# EAGLE library part PINHEADER_7PIN (library cTechnologies_connectors)
PIN HEADER
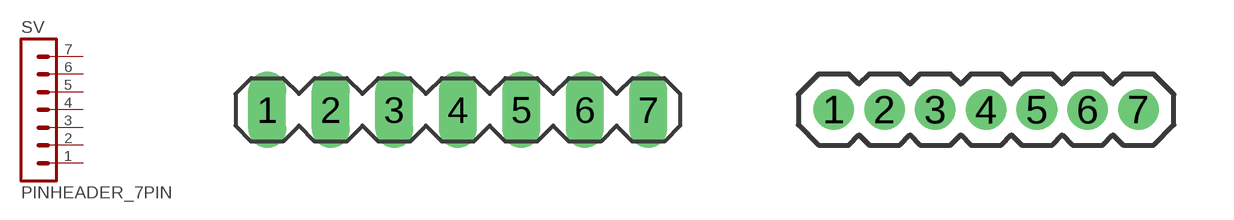
[diagram p4: symbol with the pads of MA07-1; footprints MA07-1, 1X7-1.27MM]

Designator prefix SV

## PINHEADER_7PINTHT (OC_FARNELL: unknown; OC_NEWARK: unknown)  [MA07-1]
1  1  pas
2  2  pas
3  3  pas
4  4  pas
5  5  pas
6  6  pas
7  7  pas

## PINHEADER_7PIN  [1X7-1.27MM]
Pads as for MA07-1

## Footprint MA07-1 (pad centres in mm)
PIN HEADER
drill 1.016 long: 1 -7.62,0; 2 -5.08,0; 3 -2.54,0; 4 0,0; 5 2.54,0; 6 5.08,0; 7 7.62,0

## Footprint 1X7-1.27MM (pad centres in mm)
drill 0.508 pad 1: 1 -3.81,0; 2 -2.54,0; 3 -1.27,0; 4 0,0; 5 1.27,0; 6 2.54,0; 7 3.81,0